# Altium footprint library LMH6525.PcbLib: 3 footprints
Each footprint in its own frame and in the unit in brackets; x right, y up, seen from the top. Pads: shape width x height; smd on the part's side, far side on the other; paste and mask are expansions set on the pad; w line width, h text height; cw(c..) or ccw(c..) is an arc to the next point about the centre after c.
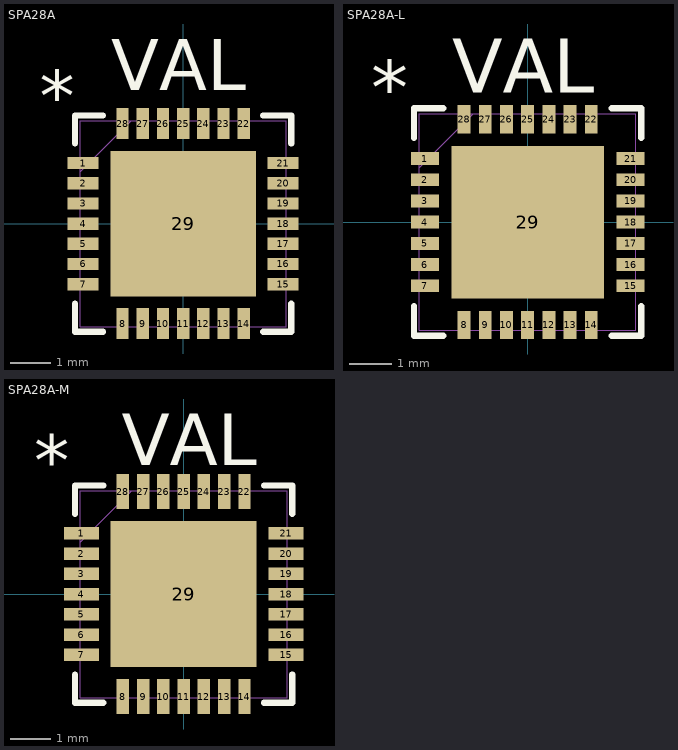
[diagram p0: the footprints below, top view; thin cyan lines are the x and y axes]

## SPA28A [mil]
pads (29):
  rect 30x12 smd: 1(-97.5,59.06) 2(-97.5,39.37) 3(-97.5,19.68) 4(-97.5,0) 5(-97.5,-19.68) 6(-97.5,-39.37) 7(-97.5,-59.06) 15(97.5,-59.06) 16(97.5,-39.37) 17(97.5,-19.68) 18(97.5,0) 19(97.5,19.68) 20(97.5,39.37) 21(97.5,59.06)
  rect 12x30 smd: 8(-59.06,-97.5) 9(-39.37,-97.5) 10(-19.68,-97.5) 11(0,-97.5) 12(19.68,-97.5) 13(39.37,-97.5) 14(59.06,-97.5) 22(59.06,97.5) 23(39.37,97.5) 24(19.68,97.5) 25(0,97.5) 26(-19.68,97.5) 27(-39.37,97.5) 28(-59.06,97.5)
  rect 141.73x141.73 smd paste-70.37: 29(0,0)
Top Overlay:
  lines w6: -105.5,-78.16 -105.5,-105.5 -78.16,-105.5 ; -105.5,78.16 -105.5,105.5 -78.16,105.5 ; 78.16,-105.5 105.5,-105.5 105.5,-78.16 ; 78.16,105.5 105.5,105.5 105.5,78.16
  text "VAL" at -70,130 h50
  text "*" at -140,100 h50
Top Paste:
  region: 66.93,-3.94 3.94,-3.94 3.94,-66.93 66.93,-66.93
  region: 66.93,66.93 3.94,66.93 3.94,3.94 66.93,3.94
  region: -3.94,-3.94 -66.93,-3.94 -66.93,-66.93 -3.94,-66.93
  region: -3.94,66.93 -66.93,66.93 -66.93,3.94 -3.94,3.94
Mechanical 1:
  lines w0: -100.5,50.5 -50.5,100.5 ; -100.5,-100.5 -100.5,100.5 100.5,100.5 100.5,-100.5 -100.5,-100.5 ; -100.5,-65.06 -100.5,-53.06 -100.5,-65.06 ; -100.5,-45.37 -100.5,-33.37 -100.5,-45.37 ; -100.5,-25.68 -100.5,-13.69 -100.5,-25.68 ; -100.5,-6 -100.5,6 -100.5,-6 ; -100.5,13.69 -100.5,25.68 -100.5,13.69 ; -100.5,33.37 -100.5,45.37 -100.5,33.37 ; -100.5,53.06 -100.5,65.06 -100.5,53.06 ; -65.06,-100.5 -53.06,-100.5 -65.06,-100.5 ; -65.06,100.5 -53.06,100.5 -65.06,100.5 ; -45.37,-100.5 -33.37,-100.5 -45.37,-100.5 ; -45.37,100.5 -33.37,100.5 -45.37,100.5 ; -25.68,-100.5 -13.69,-100.5 -25.68,-100.5 ; -25.68,100.5 -13.69,100.5 -25.68,100.5 ; -6,-100.5 6,-100.5 -6,-100.5 ; -6,100.5 6,100.5 -6,100.5 ; 13.69,-100.5 25.68,-100.5 13.69,-100.5 ; 13.69,100.5 25.68,100.5 13.69,100.5 ; 33.37,-100.5 45.37,-100.5 33.37,-100.5 ; 33.37,100.5 45.37,100.5 33.37,100.5 ; 53.06,-100.5 65.06,-100.5 53.06,-100.5 ; 53.06,100.5 65.06,100.5 53.06,100.5 ; 100.5,-65.06 100.5,-53.06 100.5,-65.06 ; 100.5,-45.37 100.5,-33.37 100.5,-45.37 ; 100.5,-25.68 100.5,-13.69 100.5,-25.68 ; 100.5,-6 100.5,6 100.5,-6 ; 100.5,13.69 100.5,25.68 100.5,13.69 ; 100.5,33.37 100.5,45.37 100.5,33.37 ; 100.5,53.06 100.5,65.06 100.5,53.06
  text "*" at -140,100 h50
3D body "SPA28A.stp": height 20.01, standoff 0, extent -102.49,-102.49 102.51,102.5

## SPA28A-L [mil]
pads (29):
  rect 26x12 smd: 1(-95.5,59.06) 2(-95.5,39.37) 3(-95.5,19.68) 4(-95.5,0) 5(-95.5,-19.68) 6(-95.5,-39.37) 7(-95.5,-59.06) 15(95.5,-59.06) 16(95.5,-39.37) 17(95.5,-19.68) 18(95.5,0) 19(95.5,19.68) 20(95.5,39.37) 21(95.5,59.06)
  rect 12x26 smd: 8(-59.06,-95.5) 9(-39.37,-95.5) 10(-19.68,-95.5) 11(0,-95.5) 12(19.68,-95.5) 13(39.37,-95.5) 14(59.06,-95.5) 22(59.06,95.5) 23(39.37,95.5) 24(19.68,95.5) 25(0,95.5) 26(-19.68,95.5) 27(-39.37,95.5) 28(-59.06,95.5)
  rect 141.73x141.73 smd paste-70.37: 29(0,0)
Top Overlay:
  lines w6: -105.5,-78.16 -105.5,-105.5 -78.16,-105.5 ; -105.5,78.16 -105.5,105.5 -78.16,105.5 ; 78.16,-105.5 105.5,-105.5 105.5,-78.16 ; 78.16,105.5 105.5,105.5 105.5,78.16
  text "*" at -145,100 h50
  text "VAL" at -70,120 h50
Top Paste:
  region: -3.94,66.93 -66.93,66.93 -66.93,3.94 -3.94,3.94
  region: -3.94,-3.94 -66.93,-3.94 -66.93,-66.93 -3.94,-66.93
  region: 66.93,66.93 3.94,66.93 3.94,3.94 66.93,3.94
  region: 66.93,-3.94 3.94,-3.94 3.94,-66.93 66.93,-66.93
Mechanical 1:
  lines w0: -100.5,50.5 -50.5,100.5 ; -100.5,-100.5 100.5,-100.5 100.5,100.5 -100.5,100.5 -100.5,-100.5 ; -100.5,-65.06 -100.5,-53.06 -100.5,-65.06 ; -100.5,-45.37 -100.5,-33.37 -100.5,-45.37 ; -100.5,-25.68 -100.5,-13.69 -100.5,-25.68 ; -100.5,-6 -100.5,6 -100.5,-6 ; -100.5,13.69 -100.5,25.68 -100.5,13.69 ; -100.5,33.37 -100.5,45.37 -100.5,33.37 ; -100.5,53.06 -100.5,65.06 -100.5,53.06 ; -65.06,-100.5 -53.06,-100.5 -65.06,-100.5 ; -65.06,100.5 -53.06,100.5 -65.06,100.5 ; -45.37,-100.5 -33.37,-100.5 -45.37,-100.5 ; -45.37,100.5 -33.37,100.5 -45.37,100.5 ; -25.68,-100.5 -13.69,-100.5 -25.68,-100.5 ; -25.68,100.5 -13.69,100.5 -25.68,100.5 ; -6,-100.5 6,-100.5 -6,-100.5 ; -6,100.5 6,100.5 -6,100.5 ; 13.69,-100.5 25.68,-100.5 13.69,-100.5 ; 13.69,100.5 25.68,100.5 13.69,100.5 ; 33.37,-100.5 45.37,-100.5 33.37,-100.5 ; 33.37,100.5 45.37,100.5 33.37,100.5 ; 53.06,-100.5 65.06,-100.5 53.06,-100.5 ; 53.06,100.5 65.06,100.5 53.06,100.5 ; 100.5,-65.06 100.5,-53.06 100.5,-65.06 ; 100.5,-45.37 100.5,-33.37 100.5,-45.37 ; 100.5,-25.68 100.5,-13.69 100.5,-25.68 ; 100.5,-6 100.5,6 100.5,-6 ; 100.5,13.69 100.5,25.68 100.5,13.69 ; 100.5,33.37 100.5,45.37 100.5,33.37 ; 100.5,53.06 100.5,65.06 100.5,53.06
  text "*" at -145,100 h50
3D body "SPA28A-L.stp": height 20.01, standoff 0, extent -102.49,-102.49 102.51,102.51

## SPA28A-M [mil]
pads (29):
  rect 34x12 smd: 1(-99.5,59.06) 2(-99.5,39.37) 3(-99.5,19.68) 4(-99.5,0) 5(-99.5,-19.68) 6(-99.5,-39.37) 7(-99.5,-59.06) 15(99.5,-59.06) 16(99.5,-39.37) 17(99.5,-19.68) 18(99.5,0) 19(99.5,19.68) 20(99.5,39.37) 21(99.5,59.06)
  rect 12x34 smd: 8(-59.06,-99.5) 9(-39.37,-99.5) 10(-19.68,-99.5) 11(0,-99.5) 12(19.68,-99.5) 13(39.37,-99.5) 14(59.06,-99.5) 22(59.06,99.5) 23(39.37,99.5) 24(19.68,99.5) 25(0,99.5) 26(-19.68,99.5) 27(-39.37,99.5) 28(-59.06,99.5)
  rect 141.73x141.73 smd paste-70.37: 29(0,0)
Top Overlay:
  lines w6: -105.5,-78.16 -105.5,-105.5 -78.16,-105.5 ; -105.5,78.16 -105.5,105.5 -78.16,105.5 ; 78.16,-105.5 105.5,-105.5 105.5,-78.16 ; 78.16,105.5 105.5,105.5 105.5,78.16
  text "VAL" at -60,125 h50
  text "*" at -145,105 h50
Top Paste:
  region: 66.93,-3.94 3.94,-3.94 3.94,-66.93 66.93,-66.93
  region: 66.93,66.93 3.94,66.93 3.94,3.94 66.93,3.94
  region: -3.94,-3.94 -66.93,-3.94 -66.93,-66.93 -3.94,-66.93
  region: -3.94,66.93 -66.93,66.93 -66.93,3.94 -3.94,3.94
Mechanical 1:
  lines w0: -100.5,50.5 -50.5,100.5 ; -100.5,-100.5 -100.5,100.5 100.5,100.5 100.5,-100.5 -100.5,-100.5 ; -100.5,-65.06 -100.5,-53.06 -100.5,-65.06 ; -100.5,-45.37 -100.5,-33.37 -100.5,-45.37 ; -100.5,-25.68 -100.5,-13.69 -100.5,-25.68 ; -100.5,-6 -100.5,6 -100.5,-6 ; -100.5,13.69 -100.5,25.68 -100.5,13.69 ; -100.5,33.37 -100.5,45.37 -100.5,33.37 ; -100.5,53.06 -100.5,65.06 -100.5,53.06 ; -65.06,-100.5 -53.06,-100.5 -65.06,-100.5 ; -65.06,100.5 -53.06,100.5 -65.06,100.5 ; -45.37,-100.5 -33.37,-100.5 -45.37,-100.5 ; -45.37,100.5 -33.37,100.5 -45.37,100.5 ; -25.68,-100.5 -13.69,-100.5 -25.68,-100.5 ; -25.68,100.5 -13.69,100.5 -25.68,100.5 ; -6,-100.5 6,-100.5 -6,-100.5 ; -6,100.5 6,100.5 -6,100.5 ; 13.69,-100.5 25.68,-100.5 13.69,-100.5 ; 13.69,100.5 25.68,100.5 13.69,100.5 ; 33.37,-100.5 45.37,-100.5 33.37,-100.5 ; 33.37,100.5 45.37,100.5 33.37,100.5 ; 53.06,-100.5 65.06,-100.5 53.06,-100.5 ; 53.06,100.5 65.06,100.5 53.06,100.5 ; 100.5,-65.06 100.5,-53.06 100.5,-65.06 ; 100.5,-45.37 100.5,-33.37 100.5,-45.37 ; 100.5,-25.68 100.5,-13.69 100.5,-25.68 ; 100.5,-6 100.5,6 100.5,-6 ; 100.5,13.69 100.5,25.68 100.5,13.69 ; 100.5,33.37 100.5,45.37 100.5,33.37 ; 100.5,53.06 100.5,65.06 100.5,53.06
  text "*" at -145,105 h50
3D body "SPA28A-M.stp": height 20.01, standoff 0, extent -102.49,-102.49 102.51,102.5